# EAGLE library part IR2104 (library svBGC)
International Rectifier IR2104(S) & (PbF) HALF-BRIDGE DRIVER Product Summary VOFFSET 600V max. IO+/- 130 mA / 270 mA VOUT 10 - 20V ton/off (typ.) 680 & 150 ns Deadtime (typ.) 520 ns
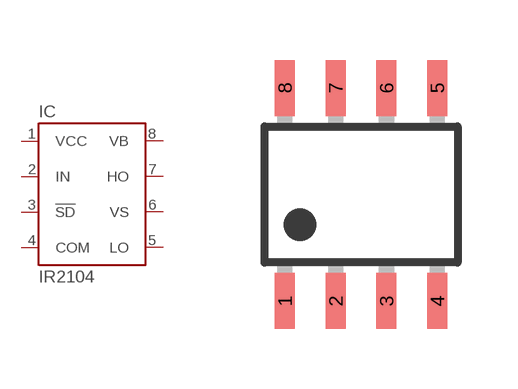
[diagram p15: symbol with the pads of SOIC-8; footprint SOIC-8]

Designator prefix IC

## IR2104SPBF  [SOIC-8]
1  VCC  in
2  IN  in
3  !SD  in
4  COM  pwr
5  LO  out
6  VS  in
7  HO  out
8  VB  in

## Footprint SOIC-8 (pad centres in mm)
SOIC-8 150 mil Package
smd 0.5 x 1.4: 1 -1.905,-2.667; 2 -0.635,-2.667; 3 0.635,-2.667; 4 1.905,-2.667; 5 1.905,2.667; 6 0.635,2.667; 7 -0.635,2.667; 8 -1.905,2.667